# Altium schematic symbol library SCH - MCU - TI - TI MSPM0L130X VSSOP-20 DGS20.SchLib: 1 symbol
Pins are listed as number, name and electrical type; pins without a type are passive.

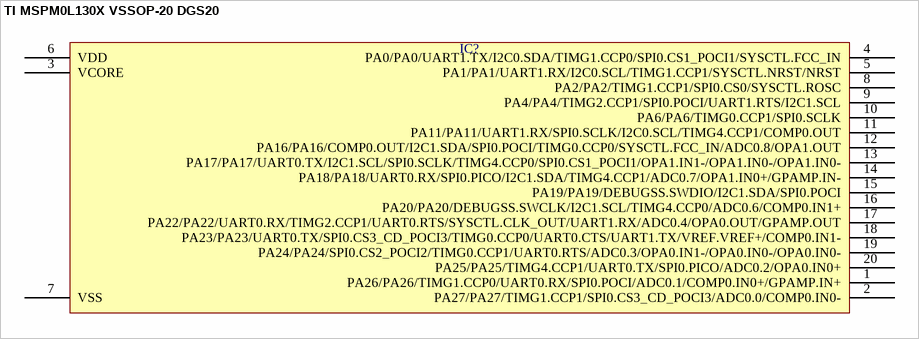
[diagram p0: symbol TI MSPM0L130X VSSOP-20 DGS20]

## TI MSPM0L130X VSSOP-20 DGS20
designator IC?  (value not drawn)
pins: 1 PA26/PA26/TIMG1.CCP0/UART0.RX/SPI0.POCI/ADC0.1/COMP0.IN0+/GPAMP.IN+, 2 PA27/PA27/TIMG1.CCP1/SPI0.CS3_CD_POCI3/ADC0.0/COMP0.IN0-, 3 VCORE, 4 PA0/PA0/UART1.TX/I2C0.SDA/TIMG1.CCP0/SPI0.CS1_POCI1/SYSCTL.FCC_IN, 5 PA1/PA1/UART1.RX/I2C0.SCL/TIMG1.CCP1/SYSCTL.NRST/NRST, 6 VDD, 7 VSS, 8 PA2/PA2/TIMG1.CCP1/SPI0.CS0/SYSCTL.ROSC, 9 PA4/PA4/TIMG2.CCP1/SPI0.POCI/UART1.RTS/I2C1.SCL, 10 PA6/PA6/TIMG0.CCP1/SPI0.SCLK, 11 PA11/PA11/UART1.RX/SPI0.SCLK/I2C0.SCL/TIMG4.CCP1/COMP0.OUT, 12 PA16/PA16/COMP0.OUT/I2C1.SDA/SPI0.POCI/TIMG0.CCP0/SYSCTL.FCC_IN/ADC0.8/OPA1.OUT, 13 PA17/PA17/UART0.TX/I2C1.SCL/SPI0.SCLK/TIMG4.CCP0/SPI0.CS1_POCI1/OPA1.IN1-/OPA1.IN0-/OPA1.IN0-, 14 PA18/PA18/UART0.RX/SPI0.PICO/I2C1.SDA/TIMG4.CCP1/ADC0.7/OPA1.IN0+/GPAMP.IN-, 15 PA19/PA19/DEBUGSS.SWDIO/I2C1.SDA/SPI0.POCI, 16 PA20/PA20/DEBUGSS.SWCLK/I2C1.SCL/TIMG4.CCP0/ADC0.6/COMP0.IN1+, 17 PA22/PA22/UART0.RX/TIMG2.CCP1/UART0.RTS/SYSCTL.CLK_OUT/UART1.RX/ADC0.4/OPA0.OUT/GPAMP.OUT, 18 PA23/PA23/UART0.TX/SPI0.CS3_CD_POCI3/TIMG0.CCP0/UART0.CTS/UART1.TX/VREF.VREF+/COMP0.IN1-, 19 PA24/PA24/SPI0.CS2_POCI2/TIMG0.CCP1/UART0.RTS/ADC0.3/OPA0.IN1-/OPA0.IN0-/OPA0.IN0-, 20 PA25/PA25/TIMG4.CCP1/UART0.TX/SPI0.PICO/ADC0.2/OPA0.IN0+